# EAGLE library part ICL7650S (library op-amp)
OP-AMP 2MHz, Super Chopper-Stabilized
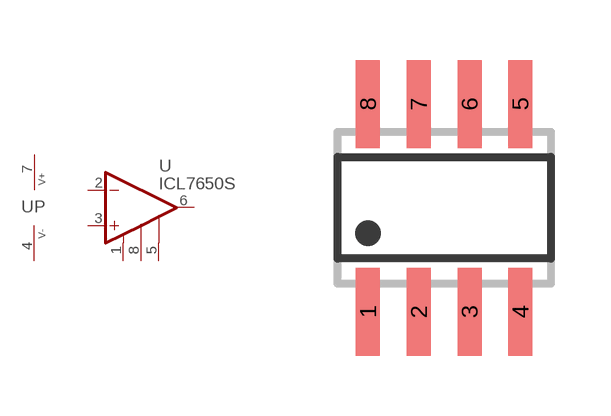
[diagram p69: symbol with the pads of SO08; footprint SO08]

Designator prefix U; gates P=PWR+- A=ICL7650S

## ICL7650SCBA  [SO08]
1  A:CA  pwr
2  A:-IN  in
3  A:+IN  in
4  P:V-  pwr
5  A:CR  pas
6  A:OUT  out
7  P:V+  pwr
8  A:CB  pas

## Footprint SO08 (pad centres in mm)
SMALL OUTLINE INTEGRATED CIRCUIT body 3.9 mm/JEDEC MS-012AA
smd 0.6 x 2.2: 1 -1.905,-2.6; 2 -0.635,-2.6; 3 0.635,-2.6; 4 1.905,-2.6; 5 1.905,2.6; 6 0.635,2.6; 7 -0.635,2.6; 8 -1.905,2.6